# EAGLE library part LPC4078FBD208 (library nxp_60_1_1)
32-bit ARM Cortex-M4 MCU; up to 512 kB flash, 96 kB SRAM; USB Device/Host/OTG; Ethernet; LCD; EMC; SPIFI The LPC408x/7x is an ARM Cortex-M4 based digital signal controller for embedded applications requiring a high level of integration and low power dissipation. The ARM Cortex-M4 is a next generation core that offers system enhancements such as low power consumption, enhanced debug features, and a high level of support block integration. The ARM Cortex-M4 CPU incorporates a 3-stage pipeline, uses a Harvard architecture with separate local instruction and data buses as well as a third bus for peripherals, and includes an internal prefetch unit that supports speculative branching. The ARM Cortex-M4 supports single-cycle digital signal processing and SIMD instructions. A hardware floating-point processor is integrated in the core for several versions of the part. The LPC408x/7x adds a specialized flash memory accelerator to accomplish optimal performance when executing code from flash. The LPC408x/7x is targeted to operate at up to 120 MHz CPU frequency. The peripheral complement of the LPC408x/7x includes up to 512 kB of flash program memory, up to 96 kB of SRAM data memory, up to 4032 byte of EEPROM data memory, External Memory controller (EMC), LCD, Ethernet, USB Device/Host/OTG, an SPI Flash Interface (SPIFI), a General Purpose DMA controller, five UARTs, three SSP controllers, three I 2 C-bus interfaces, a Quadrature Encoder Interface, four general purpose timers, two general purpose PWMs with six outputs each and one motor control PWM, an ultra-low power RTC with separate battery supply and event recorder, a windowed watchdog timer, a CRC calculation engine and up to 165 general purpose I/O pins. The analog peripherals include one eight-channel 12-bit ADC, two analog comparators, and a DAC. The pinout of LPC408x/7x is intended to allow pin function compatibility with the LPC24xx/23xx as well as the LPC178x/7x families. AAL Eindhoven MK
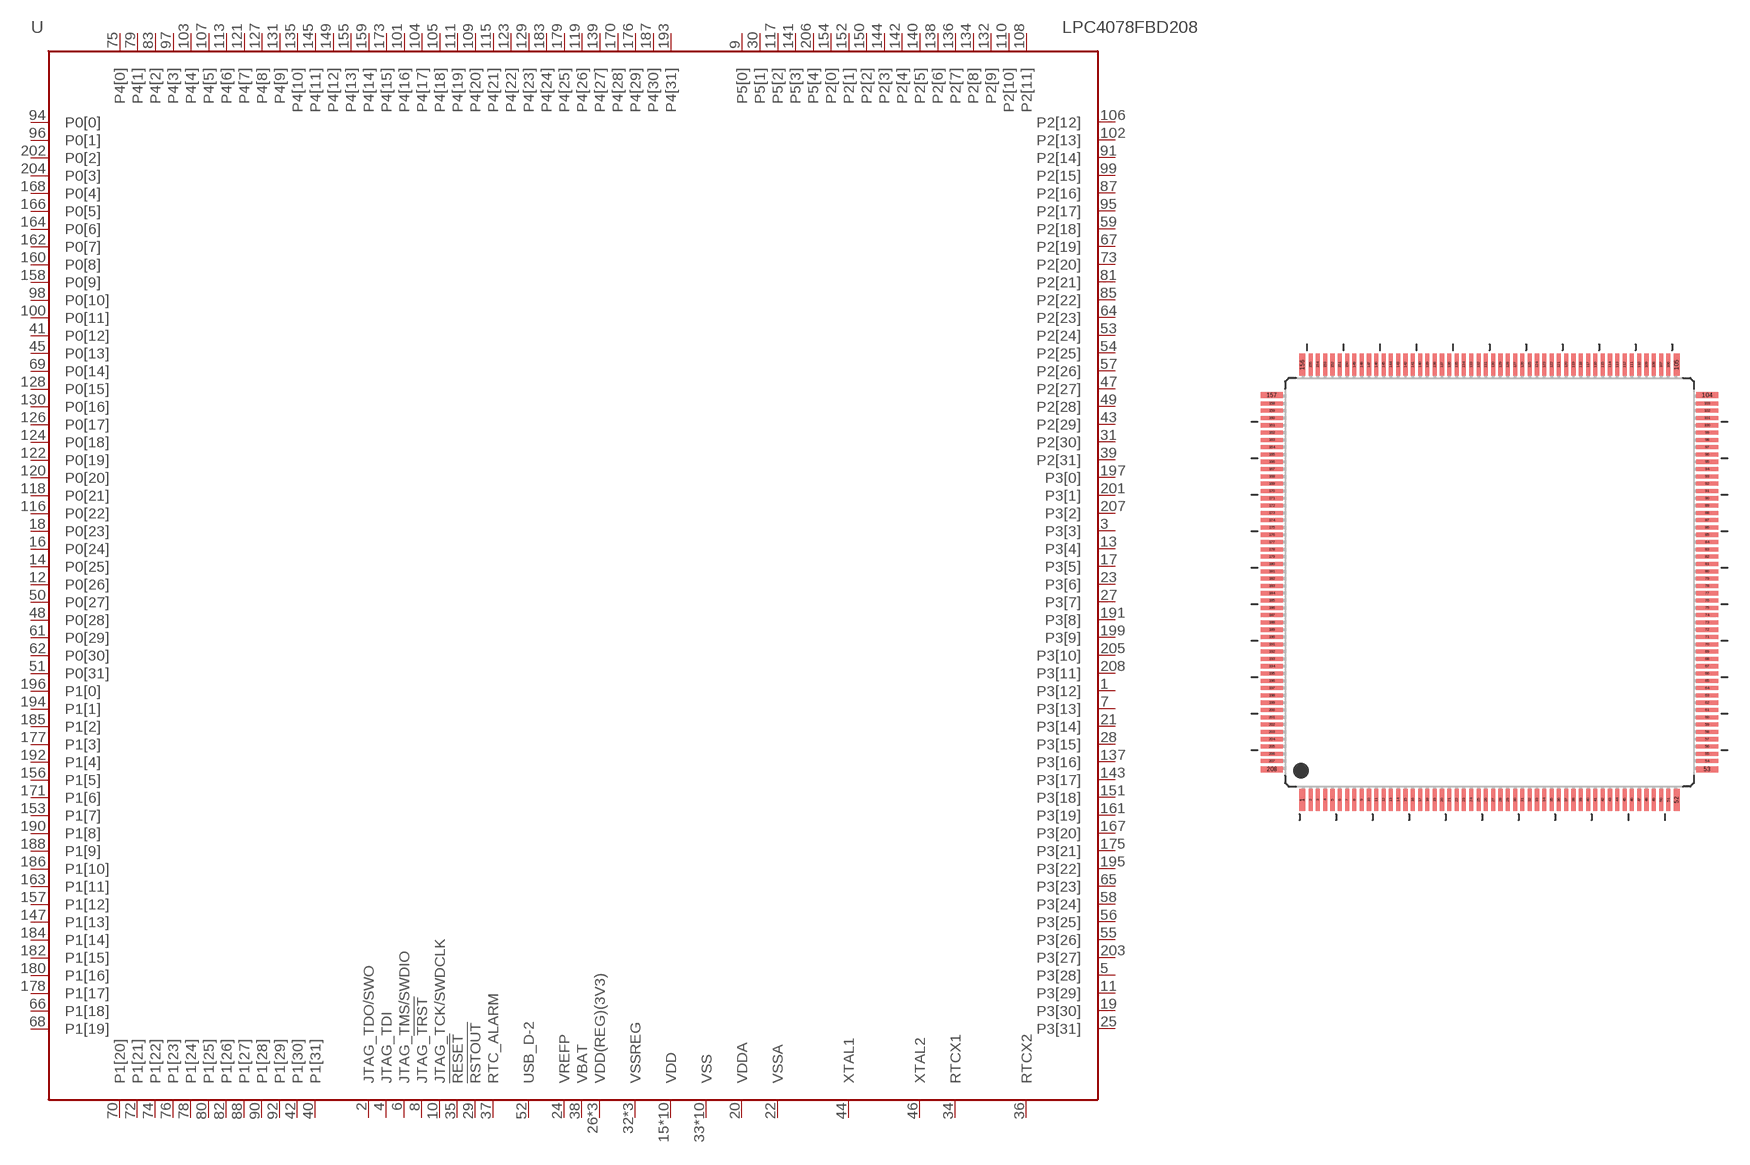
[diagram p136: symbol with the pads of SOT459-1; footprint SOT459-1]

Designator prefix U

## LPC4078FBD208  [SOT459-1]
1  P3[12]
2  JTAG_TDO/SWO  out
3  P3[3]
4  JTAG_TDI  in
5  P3[28]
6  JTAG_TMS/SWDIO  in
7  P3[13]
8  JTAG_!TRST  in
9  P5[0]
10  JTAG_TCK/SWDCLK  in
11  P3[29]
12  P0[26]
13  P3[4]
14  P0[25]
15  VDD  pwr
16  P0[24]
17  P3[5]
18  P0[23]
19  P3[30]
20  VDDA  pwr
21  P3[14]
22  VSSA  pwr
23  P3[6]
24  VREFP  pwr
25  P3[31]
26  VDD(REG)(3V3)  pwr
27  P3[7]
28  P3[15]
29  !RSTOUT!  out
30  P5[1]
31  P2[30]
32  VSSREG  pwr
33  VSS  pwr
34  RTCX1  in
35  !RESET!  in
36  RTCX2  out
37  RTC_ALARM  out
38  VBAT  pwr
39  P2[31]
40  P1[31]
41  P0[12]
42  P1[30]
43  P2[29]
44  XTAL1  in
45  P0[13]
46  XTAL2  out
47  P2[27]
48  P0[28]
49  P2[28]
50  P0[27]
51  P0[31]
52  USB_D-2
53  P2[24]
54  P2[25]
55  P3[26]
56  P3[25]
57  P2[26]
58  P3[24]
59  P2[18]
60  VDD  pwr
61  P0[29]
62  P0[30]
63  VSS  pwr
64  P2[23]
65  P3[23]
66  P1[18]
67  P2[19]
68  P1[19]
69  P0[14]
70  P1[20]
71  VDD  pwr
72  P1[21]
73  P2[20]
74  P1[22]
75  P4[0]
76  P1[23]
77  VSS  pwr
78  P1[24]
79  P4[1]
80  P1[25]
81  P2[21]
82  P1[26]
83  P4[2]
84  VSSREG  pwr
85  P2[22]
86  VDD(REG)(3V3)  pwr
87  P2[16]
88  P1[27]
89  VDD  pwr
90  P1[28]
91  P2[14]
92  P1[29]
93  VSS  pwr
94  P0[0]
95  P2[17]
96  P0[1]
97  P4[3]
98  P0[10]
99  P2[15]
100  P0[11]
101  P4[16]
102  P2[13]
103  P4[4]
104  P4[17]
105  P4[18]
106  P2[12]
107  P4[5]
108  P2[11]
109  P4[20]
110  P2[10]
111  P4[19]
112  VDD  pwr
113  P4[6]
114  VSS  pwr
115  P4[21]
116  P0[22]
117  P5[2]
118  P0[21]
119  P4[26]
120  P0[20]
121  P4[7]
122  P0[19]
123  P4[22]
124  P0[18]
125  VDD  pwr
126  P0[17]
127  P4[8]
128  P0[15]
129  P4[23]
130  P0[16]
131  P4[9]
132  P2[9]
133  VSS  pwr
134  P2[8]
135  P4[10]
136  P2[7]
137  P3[16]
138  P2[6]
139  P4[27]
140  P2[5]
141  P5[3]
142  P2[4]
143  P3[17]
144  P2[3]
145  P4[11]
146  VDD  pwr
147  P1[13]
148  VSS  pwr
149  P4[12]
150  P2[2]
151  P3[18]
152  P2[1]
153  P1[7]
154  P2[0]
155  P4[13]
156  P1[5]
157  P1[12]
158  P0[9]
159  P4[14]
160  P0[8]
161  P3[19]
162  P0[7]
163  P1[11]
164  P0[6]
165  VDD  pwr
166  P0[5]
167  P3[20]
168  P0[4]
169  VSS  pwr
170  P4[28]
171  P1[6]
172  VSSREG  pwr
173  P4[15]
174  VDD(REG)(3V3)  pwr
175  P3[21]
176  P4[29]
177  P1[3]
178  P1[17]
179  P4[25]
180  P1[16]
181  VDD  pwr
182  P1[15]
183  P4[24]
184  P1[14]
185  P1[2]
186  P1[10]
187  P4[30]
188  P1[9]
189  VSS  pwr
190  P1[8]
191  P3[8]
192  P1[4]
193  P4[31]
194  P1[1]
195  P3[22]
196  P1[0]
197  P3[0]
198  VDD  pwr
199  P3[9]
200  VSS  pwr
201  P3[1]
202  P0[2]
203  P3[27]
204  P0[3]
205  P3[10]
206  P5[4]
207  P3[2]
208  P3[11]

## Footprint SOT459-1 (pad centres in mm)
SOT459-1 LQFP208; plastic low profile quad flat package; 208 leads; body 28 x 28 x 1.4 mm JEDEC: MS-026 IEC: 136E30 JEITA: --
smd 0.4 x 1.5: 1 -12.81,-14.9; 52 12.81,-14.9; 105 12.81,14.9; 156 -12.81,14.9
smd 0.28 x 1.5: 2 -12.25,-14.9; 3 -11.75,-14.9; 4 -11.25,-14.9; 5 -10.75,-14.9; 6 -10.25,-14.9; 7 -9.75,-14.9; 8 -9.25,-14.9; 9 -8.75,-14.9; 10 -8.25,-14.9; 11 -7.75,-14.9; 12 -7.25,-14.9; 13 -6.75,-14.9; 14 -6.25,-14.9; 15 -5.75,-14.9; 16 -5.25,-14.9; 17 -4.75,-14.9; 18 -4.25,-14.9; 19 -3.75,-14.9; 20 -3.25,-14.9; 21 -2.75,-14.9; 22 -2.25,-14.9; 23 -1.75,-14.9; 24 -1.25,-14.9; 25 -0.75,-14.9; 26 -0.25,-14.9; 27 0.25,-14.9; 28 0.75,-14.9; 29 1.25,-14.9; 30 1.75,-14.9; 31 2.25,-14.9; 32 2.75,-14.9; 33 3.25,-14.9; 34 3.75,-14.9; 35 4.25,-14.9; 36 4.75,-14.9; 37 5.25,-14.9; 38 5.75,-14.9; 39 6.25,-14.9; 40 6.75,-14.9; 41 7.25,-14.9; 42 7.75,-14.9; 43 8.25,-14.9; 44 8.75,-14.9; 45 9.25,-14.9; 46 9.75,-14.9; 47 10.25,-14.9; 48 10.75,-14.9; 49 11.25,-14.9; 50 11.75,-14.9; 51 12.25,-14.9; 106 12.25,14.9; 107 11.75,14.9; 108 11.25,14.9; 109 10.75,14.9; 110 10.25,14.9; 111 9.75,14.9; 112 9.25,14.9; 113 8.75,14.9; 114 8.25,14.9; 115 7.75,14.9; 116 7.25,14.9; 117 6.75,14.9; 118 6.25,14.9; 119 5.75,14.9; 120 5.25,14.9; 121 4.75,14.9; 122 4.25,14.9; 123 3.75,14.9; 124 3.25,14.9; 125 2.75,14.9; 126 2.25,14.9; 127 1.75,14.9; 128 1.25,14.9; 129 0.75,14.9; 130 0.25,14.9; 131 -0.25,14.9; 132 -0.75,14.9; 133 -1.25,14.9; 134 -1.75,14.9; 135 -2.25,14.9; 136 -2.75,14.9; 137 -3.25,14.9; 138 -3.75,14.9; 139 -4.25,14.9; 140 -4.75,14.9; 141 -5.25,14.9; 142 -5.75,14.9; 143 -6.25,14.9; 144 -6.75,14.9; 145 -7.25,14.9; 146 -7.75,14.9; 147 -8.25,14.9; 148 -8.75,14.9; 149 -9.25,14.9; 150 -9.75,14.9; 151 -10.25,14.9; 152 -10.75,14.9; 153 -11.25,14.9; 154 -11.75,14.9; 155 -12.25,14.9
smd 1.5 x 0.4: 53 14.9,-12.81; 104 14.9,12.81; 157 -14.9,12.81; 208 -14.9,-12.81
smd 1.5 x 0.28: 54 14.9,-12.25; 55 14.9,-11.75; 56 14.9,-11.25; 57 14.9,-10.75; 58 14.9,-10.25; 59 14.9,-9.75; 60 14.9,-9.25; 61 14.9,-8.75; 62 14.9,-8.25; 63 14.9,-7.75; 64 14.9,-7.25; 65 14.9,-6.75; 66 14.9,-6.25; 67 14.9,-5.75; 68 14.9,-5.25; 69 14.9,-4.75; 70 14.9,-4.25; 71 14.9,-3.75; 72 14.9,-3.25; 73 14.9,-2.75; 74 14.9,-2.25; 75 14.9,-1.75; 76 14.9,-1.25; 77 14.9,-0.75; 78 14.9,-0.25; 79 14.9,0.25; 80 14.9,0.75; 81 14.9,1.25; 82 14.9,1.75; 83 14.9,2.25; 84 14.9,2.75; 85 14.9,3.25; 86 14.9,3.75; 87 14.9,4.25; 88 14.9,4.75; 89 14.9,5.25; 90 14.9,5.75; 91 14.9,6.25; 92 14.9,6.75; 93 14.9,7.25; 94 14.9,7.75; 95 14.9,8.25; 96 14.9,8.75; 97 14.9,9.25; 98 14.9,9.75; 99 14.9,10.25; 100 14.9,10.75; 101 14.9,11.25; 102 14.9,11.75; 103 14.9,12.25; 158 -14.9,12.25; 159 -14.9,11.75; 160 -14.9,11.25; 161 -14.9,10.75; 162 -14.9,10.25; 163 -14.9,9.75; 164 -14.9,9.25; 165 -14.9,8.75; 166 -14.9,8.25; 167 -14.9,7.75; 168 -14.9,7.25; 169 -14.9,6.75; 170 -14.9,6.25; 171 -14.9,5.75; 172 -14.9,5.25; 173 -14.9,4.75; 174 -14.9,4.25; 175 -14.9,3.75; 176 -14.9,3.25; 177 -14.9,2.75; 178 -14.9,2.25; 179 -14.9,1.75; 180 -14.9,1.25; 181 -14.9,0.75; 182 -14.9,0.25; 183 -14.9,-0.25; 184 -14.9,-0.75; 185 -14.9,-1.25; 186 -14.9,-1.75; 187 -14.9,-2.25; 188 -14.9,-2.75; 189 -14.9,-3.25; 190 -14.9,-3.75; 191 -14.9,-4.25; 192 -14.9,-4.75; 193 -14.9,-5.25; 194 -14.9,-5.75; 195 -14.9,-6.25; 196 -14.9,-6.75; 197 -14.9,-7.25; 198 -14.9,-7.75; 199 -14.9,-8.25; 200 -14.9,-8.75; 201 -14.9,-9.25; 202 -14.9,-9.75; 203 -14.9,-10.25; 204 -14.9,-10.75; 205 -14.9,-11.25; 206 -14.9,-11.75; 207 -14.9,-12.25